# EAGLE library part AVX_10-PIN_009159010061916_40MIL-GAP (library Debug-Edge_AVX-connectors)
Open Ended Card Edge: BTB
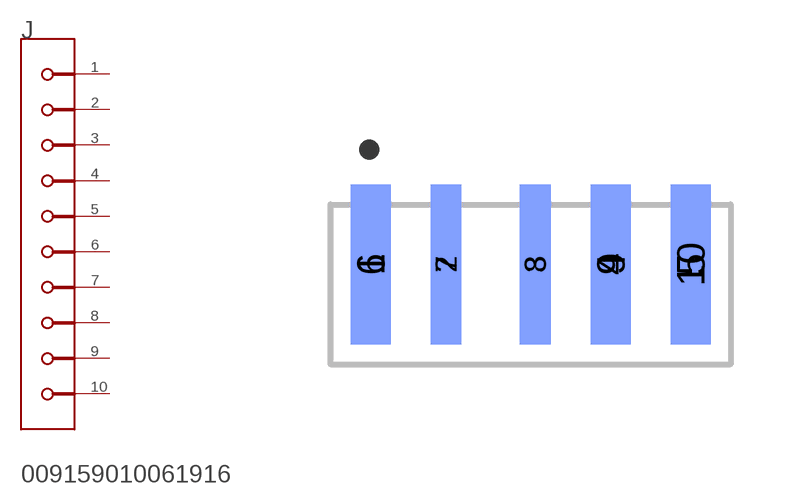
[diagram p3: symbol with the pads of AVX_10-PIN_009159010061916_40MIL-GAP; footprint AVX_10-PIN_009159010061916_40MIL-GAP]

Designator prefix J

## AVX_10-PIN_009159010061916_40MIL-GAP  [AVX_10-PIN_009159010061916_40MIL-GAP]
1  1
2  2
3  3
4  4
5  5
6  6
7  7
8  8
9  9
10  10

## Footprint AVX_10-PIN_009159010061916_40MIL-GAP (pad centres in mm)
Open Ended Card Edge: BTB
smd 1 x 4: 1 -4,2.5; 4 2,2.5; 5 4,2.5
smd 0.771 x 4: 2 -2.114,2.5; 3 0.114,2.5
smd 1 x 4 bottom: 6 -4,2.5; 9 2,2.5; 10 4,2.5
smd 0.771 x 4 bottom: 7 -2.114,2.5; 8 0.114,2.5